# EAGLE library part PCB-OUTLINE (library neopixelwordclock)
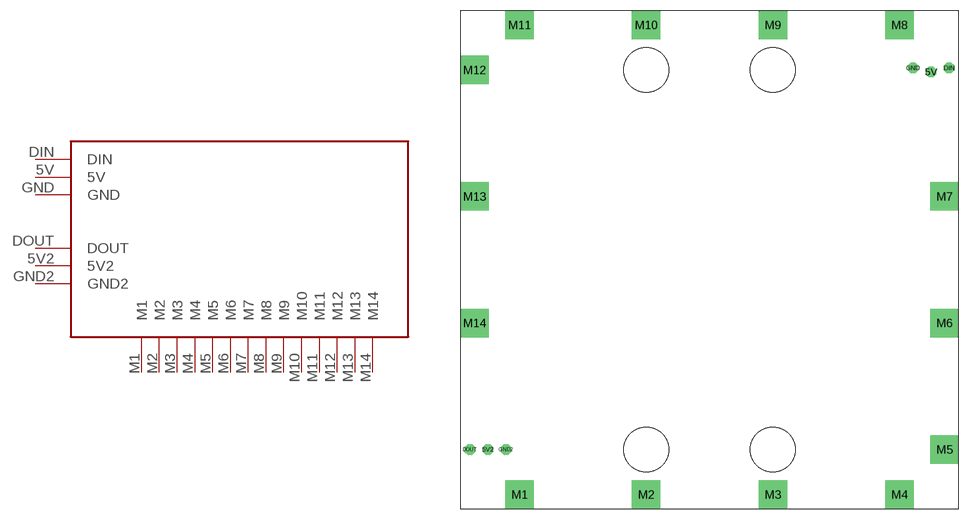
[diagram p7: symbol with the pads of PCB-OUTLINE; footprint PCB-OUTLINE]

Designator prefix -

## PCB-OUTLINE  [PCB-OUTLINE]
5V  5V
5V2  5V2
DIN  DIN
DOUT  DOUT
GND  GND
GND2  GND2
M1  M1
M2  M2
M3  M3
M4  M4
M5  M5
M6  M6
M7  M7
M8  M8
M9  M9
M10  M10
M11  M11
M12  M12
M13  M13
M14  M14

## Footprint PCB-OUTLINE (pad centres in mm)
drill 1 octagon: 5V 31.12,26.39; 5V2 -31.12,-26.67; DIN 33.66,26.95; DOUT -33.66,-26.67; GND 28.58,26.95; GND2 -28.58,-26.67
drill 3 pad 3.4 square: M1 -26.67,-33; M2 -8.89,-33; M3 8.89,-33; M4 26.67,-33; M5 33,-26.67; M6 33,-8.89; M7 33,8.89; M8 26.67,33; M9 8.89,33; M10 -8.89,33; M11 -26.67,33; M12 -33,26.67; M13 -33,8.89; M14 -33,-8.89
hole 6.3 at -8.89,26.67
hole 6.3 at 8.89,26.67
hole 6.3 at -8.89,-26.67
hole 6.3 at 8.89,-26.67